# Altium schematic symbol library TMS320F28XX.SchLib: 1 symbol
Pins are listed as number, name and electrical type; pins without a type are passive.

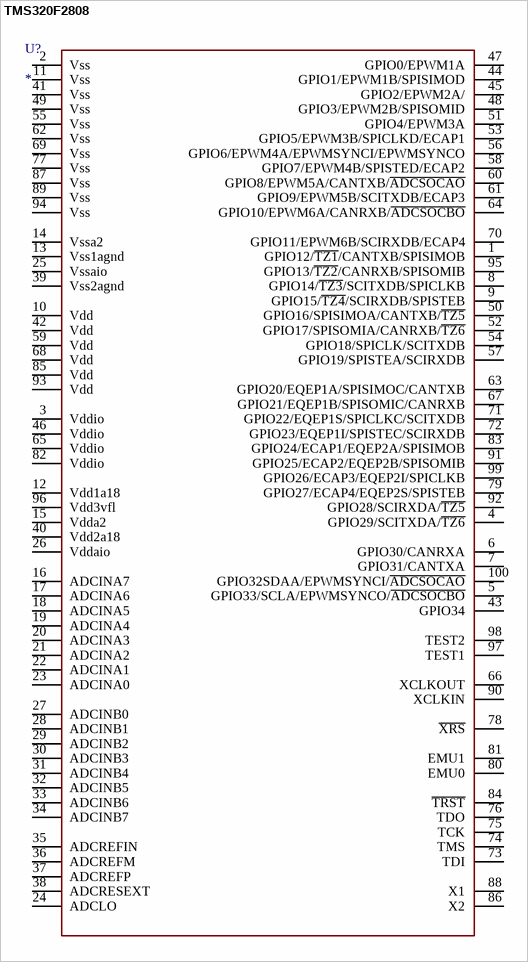
[diagram p0: symbol TMS320F2808]

## TMS320F2808
designator U?
footprint LQFP-100
pins: 1 GPIO12/~{TZ1}/CANTXB/SPISIMOB, 2 Vss, 3 Vddio, 4 GPIO29/SCITXDA/~{TZ6}, 5 GPIO33/SCLA/EPWMSYNCO/~{ADCSOCBO}, 6 GPIO30/CANRXA, 7 GPIO31/CANTXA, 8 GPIO14/~{TZ3}/SCITXDB/SPICLKB, 9 GPIO15/~{TZ4}/SCIRXDB/SPISTEB, 10 Vdd, 11 Vss, 12 Vdd1a18, 13 Vss1agnd, 14 Vssa2, 15 Vdda2, 16 ADCINA7, 17 ADCINA6, 18 ADCINA5, 19 ADCINA4, 20 ADCINA3, 21 ADCINA2, 22 ADCINA1, 23 ADCINA0, 24 ADCLO, 25 Vssaio, 26 Vddaio, 27 ADCINB0, 28 ADCINB1, 29 ADCINB2, 30 ADCINB3, 31 ADCINB4, 32 ADCINB5, 33 ADCINB6, 34 ADCINB7, 35 ADCREFIN, 36 ADCREFM, 37 ADCREFP, 38 ADCRESEXT, 39 Vss2agnd, 40 Vdd2a18, 41 Vss, 42 Vdd, 43 GPIO34, 44 GPIO1/EPWM1B/SPISIMOD, 45 GPIO2/EPWM2A/, 46 Vddio, 47 GPIO0/EPWM1A, 48 GPIO3/EPWM2B/SPISOMID, 49 Vss, 50 GPIO16/SPISIMOA/CANTXB/~{TZ5}, 51 GPIO4/EPWM3A, 52 GPIO17/SPISOMIA/CANRXB/~{TZ6}, 53 GPIO5/EPWM3B/SPICLKD/ECAP1, 54 GPIO18/SPICLK/SCITXDB, 55 Vss, 56 GPIO6/EPWM4A/EPWMSYNCI/EPWMSYNCO, 57 GPIO19/SPISTEA/SCIRXDB, 58 GPIO7/EPWM4B/SPISTED/ECAP2, 59 Vdd, 60 GPIO8/EPWM5A/CANTXB/~{ADCSOCAO}, 61 GPIO9/EPWM5B/SCITXDB/ECAP3, 62 Vss, 63 GPIO20/EQEP1A/SPISIMOC/CANTXB, 64 GPIO10/EPWM6A/CANRXB/~{ADCSOCBO}, 65 Vddio, 66 XCLKOUT, 67 GPIO21/EQEP1B/SPISOMIC/CANRXB, 68 Vdd, 69 Vss, 70 GPIO11/EPWM6B/SCIRXDB/ECAP4, 71 GPIO22/EQEP1S/SPICLKC/SCITXDB, 72 GPIO23/EQEP1I/SPISTEC/SCIRXDB, 73 TDI, 74 TMS, 75 TCK, 76 TDO, 77 Vss, 78 ~{XRS}, 79 GPIO27/ECAP4/EQEP2S/SPISTEB, 80 EMU0, 81 EMU1, 82 Vddio, 83 GPIO24/ECAP1/EQEP2A/SPISIMOB, 84 ~{TRST}, 85 Vdd, 86 X2, 87 Vss, 88 X1, 89 Vss, 90 XCLKIN, 91 GPIO25/ECAP2/EQEP2B/SPISOMIB, 92 GPIO28/SCIRXDA/~{TZ5}, 93 Vdd, 94 Vss, 95 GPIO13/~{TZ2}/CANRXB/SPISOMIB, 96 Vdd3vfl, 97 TEST1, 98 TEST2, 99 GPIO26/ECAP3/EQEP2I/SPICLKB, 100 GPIO32SDAA/EPWMSYNCI/~{ADCSOCAO}